# Altium footprint library pinhead.PCBLIB: 100 footprints (part 6 of 7)
Each footprint in its own frame and in the unit in brackets; x right, y up, seen from the top. Pads: shape width x height; smd on the part's side, far side on the other; paste and mask are expansions set on the pad; w line width, h text height; cw(c..) or ccw(c..) is an arc to the next point about the centre after c.
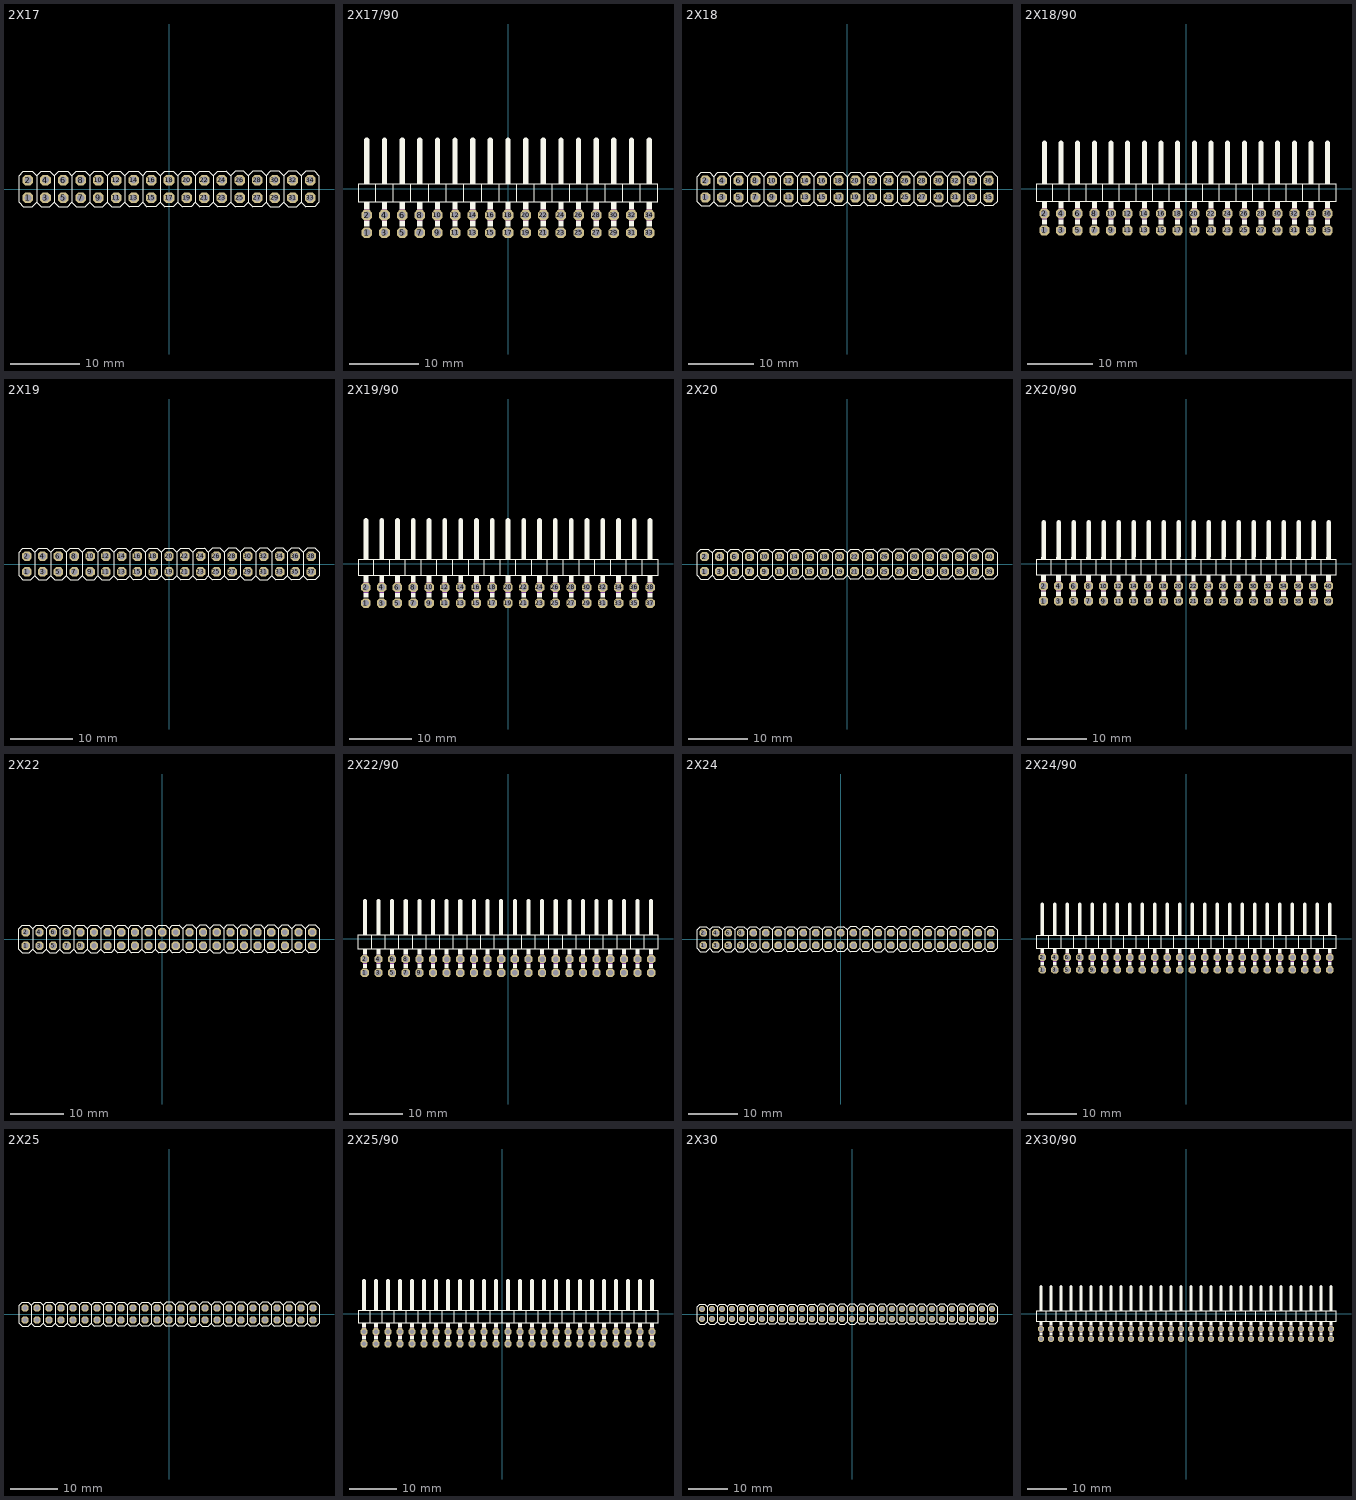
[diagram p5: the footprints below, top view; thin cyan lines are the x and y axes]

## 2X17 [mil]
pads (34):
  oct 60x60 hole 40: 1(-800,-50) 2(-800,50) 3(-700,-50) 4(-700,50) 5(-600,-50) 6(-600,50) 7(-500,-50) 8(-500,50) 9(-400,-50) 10(-400,50) 11(-300,-50) 12(-300,50) 13(-200,-50) 14(-200,50) 15(-100,-50) 16(-100,50) 17(0,-50) 18(0,50) 19(100,-50) 20(100,50) 21(200,-50) 22(200,50) 23(300,-50) 24(300,50) 25(400,-50) 26(400,50) 27(500,-50) 28(500,50) 29(600,-50) 30(600,50) 31(700,-50) 32(700,50) 33(800,-50) 34(800,50)
Top Overlay:
  lines w6: -750,-75 -775,-100 -825,-100 -850,-75 -850,75 -825,100 -775,100 -750,75 ; -750,-75 -725,-100 -675,-100 -650,-75 ; -750,-75 -750,75 ; -750,75 -725,100 -675,100 -650,75 ; -650,-75 -625,-100 -575,-100 -550,-75 ; -650,-75 -650,75 ; -650,75 -625,100 -575,100 -550,75 ; -550,-75 -525,-100 -475,-100 -450,-75 ; -550,-75 -550,75 ; -550,75 -525,100 -475,100 -450,75 ; -450,-75 -425,-100 -375,-100 -350,-75 ; -450,-75 -450,75 ; -450,75 -425,100 -375,100 -350,75 ; -350,-75 -325,-100 -275,-100 -250,-75 ; -350,-75 -350,75 ; -350,75 -325,100 -275,100 -250,75 ; -250,-75 -225,-100 -175,-100 -150,-75 ; -250,-75 -250,75 ; -250,75 -225,100 -175,100 -150,75 ; -150,-75 -125,-100 -75,-100 -50,-75 ; -150,-75 -150,75 ; -150,75 -125,100 -75,100 -50,75 ; -50,-75 -25,-100 25,-100 50,-75 ; -50,-75 -50,75 ; -50,75 -25,100 25,100 50,75 ; 50,-75 75,-100 125,-100 150,-75 ; 50,-75 50,75 ; 50,75 75,100 125,100 150,75 ; 150,-75 175,-100 225,-100 250,-75 ; 150,-75 150,75 ; 150,75 175,100 225,100 250,75 ; 250,-75 275,-100 325,-100 350,-75 ; 250,-75 250,75 ; 250,75 275,100 325,100 350,75 ; 350,-75 375,-100 425,-100 450,-75 ; 350,-75 350,75 ; 350,75 375,100 425,100 450,75 ; 450,-75 475,-100 525,-100 550,-75 ; 450,-75 450,75 ; 450,75 475,100 525,100 550,75 ; 550,-75 575,-100 625,-100 650,-75 ; 550,-75 550,75 ; 550,75 575,100 625,100 650,75 ; 650,-75 675,-100 725,-100 750,-75 ; 650,-75 650,75 ; 650,75 675,100 725,100 750,75 ; 750,-75 775,-100 825,-100 850,-75 850,75 825,100 775,100 750,75 ; 750,-75 750,75
Mechanical 16:
  rectangle: -810,-60 -790,-40
  rectangle: -810,40 -790,60
  rectangle: -710,40 -690,60
  rectangle: -710,-60 -690,-40
  rectangle: -610,40 -590,60
  rectangle: -610,-60 -590,-40
  rectangle: -510,40 -490,60
  rectangle: -410,40 -390,60
  rectangle: -310,40 -290,60
  rectangle: -510,-60 -490,-40
  rectangle: -410,-60 -390,-40
  rectangle: -310,-60 -290,-40
  rectangle: -210,40 -190,60
  rectangle: -210,-60 -190,-40
  rectangle: -110,40 -90,60
  rectangle: -110,-60 -90,-40
  rectangle: -10,40 10,60
  rectangle: -10,-60 10,-40
  rectangle: 90,40 110,60
  rectangle: 90,-60 110,-40
  rectangle: 190,40 210,60
  rectangle: 190,-60 210,-40
  rectangle: 290,40 310,60
  rectangle: 290,-60 310,-40
  rectangle: 390,40 410,60
  rectangle: 390,-60 410,-40
  rectangle: 490,40 510,60
  rectangle: 490,-60 510,-40
  rectangle: 590,40 610,60
  rectangle: 590,-60 610,-40
  rectangle: 690,40 710,60
  rectangle: 690,-60 710,-40
  rectangle: 790,40 810,60
  rectangle: 790,-60 810,-40

## 2X17/90 [mil]
pads (34):
  oct 60x60 hole 40: 1(-800,-250) 2(-800,-150) 3(-700,-250) 4(-700,-150) 5(-600,-250) 6(-600,-150) 7(-500,-250) 8(-500,-150) 9(-400,-250) 10(-400,-150) 11(-300,-250) 12(-300,-150) 13(-200,-250) 14(-200,-150) 15(-100,-250) 16(-100,-150) 17(0,-250) 18(0,-150) 19(100,-250) 20(100,-150) 21(200,-250) 22(200,-150) 23(300,-250) 24(300,-150) 25(400,-250) 26(400,-150) 27(500,-250) 28(500,-150) 29(600,-250) 30(600,-150) 31(700,-250) 32(700,-150) 33(800,-250) 34(800,-150)
Top Overlay:
  rectangle: -815,25 -785,45
  rectangle: -715,25 -685,45
  rectangle: -615,25 -585,45
  rectangle: -515,25 -485,45
  rectangle: -415,25 -385,45
  rectangle: -315,25 -285,45
  rectangle: -215,25 -185,45
  rectangle: -115,25 -85,45
  rectangle: -15,25 15,45
  rectangle: 85,25 115,45
  rectangle: 185,25 215,45
  rectangle: 285,25 315,45
  rectangle: 385,25 415,45
  rectangle: 485,25 515,45
  rectangle: 585,25 615,45
  rectangle: 685,25 715,45
  rectangle: 785,25 815,45
  rectangle: -815,-115 -785,-75
  rectangle: -715,-115 -685,-75
  rectangle: -815,-215 -785,-185
  rectangle: -715,-215 -685,-185
  rectangle: -615,-115 -585,-75
  rectangle: -515,-115 -485,-75
  rectangle: -615,-215 -585,-185
  rectangle: -515,-215 -485,-185
  rectangle: -415,-115 -385,-75
  rectangle: -415,-215 -385,-185
  rectangle: -315,-115 -285,-75
  rectangle: -215,-115 -185,-75
  rectangle: -315,-215 -285,-185
  rectangle: -215,-215 -185,-185
  rectangle: -115,-115 -85,-75
  rectangle: -15,-115 15,-75
  rectangle: -115,-215 -85,-185
  rectangle: -15,-215 15,-185
  rectangle: 85,-115 115,-75
  rectangle: 85,-215 115,-185
  rectangle: 185,-115 215,-75
  rectangle: 285,-115 315,-75
  rectangle: 185,-215 215,-185
  rectangle: 285,-215 315,-185
  rectangle: 385,-115 415,-75
  rectangle: 485,-115 515,-75
  rectangle: 385,-215 415,-185
  rectangle: 485,-215 515,-185
  rectangle: 585,-115 615,-75
  rectangle: 585,-215 615,-185
  rectangle: 685,-115 715,-75
  rectangle: 785,-115 815,-75
  rectangle: 685,-215 715,-185
  rectangle: 785,-215 815,-185
  lines w6: -750,-75 -850,-75 -850,25 -750,25 ; -750,-75 -750,25 ; -750,-75 -650,-75 ; -750,25 -650,25 ; -650,-75 -650,25 ; -650,-75 -550,-75 ; -650,25 -550,25 ; -550,-75 -550,25 ; -550,-75 -450,-75 ; -550,25 -450,25 ; -450,-75 -450,25 ; -450,-75 -350,-75 ; -450,25 -350,25 ; -350,-75 -350,25 ; -350,-75 -250,-75 ; -350,25 -250,25 ; -250,-75 -250,25 ; -250,-75 -150,-75 ; -250,25 -150,25 ; -150,-75 -150,25 ; -150,-75 -50,-75 ; -150,25 -50,25 ; -50,-75 -50,25 ; -50,-75 50,-75 ; -50,25 50,25 ; 50,-75 50,25 ; 50,-75 150,-75 ; 50,25 150,25 ; 150,-75 150,25 ; 150,-75 250,-75 ; 150,25 250,25 ; 250,-75 250,25 ; 250,-75 350,-75 ; 250,25 350,25 ; 350,-75 350,25 ; 350,-75 450,-75 ; 350,25 450,25 ; 450,-75 450,25 ; 450,-75 550,-75 ; 450,25 550,25 ; 550,-75 550,25 ; 550,-75 650,-75 ; 550,25 650,25 ; 650,-75 650,25 ; 650,-75 750,-75 ; 650,25 750,25 ; 750,-75 750,25 ; 750,-75 850,-75 850,25 750,25
  lines w30: -800,50 -800,275 ; -700,50 -700,275 ; -600,50 -600,275 ; -500,50 -500,275 ; -400,50 -400,275 ; -300,50 -300,275 ; -200,50 -200,275 ; -100,50 -100,275 ; 0,50 0,275 ; 100,50 100,275 ; 200,50 200,275 ; 300,50 300,275 ; 400,50 400,275 ; 500,50 500,275 ; 600,50 600,275 ; 700,50 700,275 ; 800,50 800,275
Mechanical 16:
  rectangle: -815,-185 -785,-115
  rectangle: -715,-185 -685,-115
  rectangle: -615,-185 -585,-115
  rectangle: -515,-185 -485,-115
  rectangle: -415,-185 -385,-115
  rectangle: -315,-185 -285,-115
  rectangle: -215,-185 -185,-115
  rectangle: -115,-185 -85,-115
  rectangle: -15,-185 15,-115
  rectangle: 85,-185 115,-115
  rectangle: 185,-185 215,-115
  rectangle: 285,-185 315,-115
  rectangle: 385,-185 415,-115
  rectangle: 485,-185 515,-115
  rectangle: 585,-185 615,-115
  rectangle: 685,-185 715,-115
  rectangle: 785,-185 815,-115

## 2X18 [mil]
pads (36):
  oct 60x60 hole 40: 1(-850,-50) 2(-850,50) 3(-750,-50) 4(-750,50) 5(-650,-50) 6(-650,50) 7(-550,-50) 8(-550,50) 9(-450,-50) 10(-450,50) 11(-350,-50) 12(-350,50) 13(-250,-50) 14(-250,50) 15(-150,-50) 16(-150,50) 17(-50,-50) 18(-50,50) 19(50,-50) 20(50,50) 21(150,-50) 22(150,50) 23(250,-50) 24(250,50) 25(350,-50) 26(350,50) 27(450,-50) 28(450,50) 29(550,-50) 30(550,50) 31(650,-50) 32(650,50) 33(750,-50) 34(750,50) 35(850,-50) 36(850,50)
Top Overlay:
  lines w6: -800,-75 -825,-100 -875,-100 -900,-75 -900,75 -875,100 -825,100 -800,75 ; -800,-75 -775,-100 -725,-100 -700,-75 ; -800,-75 -800,75 ; -800,75 -775,100 -725,100 -700,75 ; -700,-75 -675,-100 -625,-100 -600,-75 ; -700,-75 -700,75 ; -700,75 -675,100 -625,100 -600,75 ; -600,-75 -575,-100 -525,-100 -500,-75 ; -600,-75 -600,75 ; -600,75 -575,100 -525,100 -500,75 ; -500,-75 -475,-100 -425,-100 -400,-75 ; -500,-75 -500,75 ; -500,75 -475,100 -425,100 -400,75 ; -400,-75 -375,-100 -325,-100 -300,-75 ; -400,-75 -400,75 ; -400,75 -375,100 -325,100 -300,75 ; -300,-75 -275,-100 -225,-100 -200,-75 ; -300,-75 -300,75 ; -300,75 -275,100 -225,100 -200,75 ; -200,-75 -175,-100 -125,-100 -100,-75 ; -200,-75 -200,75 ; -200,75 -175,100 -125,100 -100,75 ; -100,-75 -75,-100 -25,-100 0,-75 ; -100,-75 -100,75 ; -100,75 -75,100 -25,100 0,75 ; 0,-75 25,-100 75,-100 100,-75 ; 0,-75 0,75 ; 0,75 25,100 75,100 100,75 ; 100,-75 125,-100 175,-100 200,-75 ; 100,-75 100,75 ; 100,75 125,100 175,100 200,75 ; 200,-75 225,-100 275,-100 300,-75 ; 200,-75 200,75 ; 200,75 225,100 275,100 300,75 ; 300,-75 325,-100 375,-100 400,-75 ; 300,-75 300,75 ; 300,75 325,100 375,100 400,75 ; 400,-75 425,-100 475,-100 500,-75 ; 400,-75 400,75 ; 400,75 425,100 475,100 500,75 ; 500,-75 525,-100 575,-100 600,-75 ; 500,-75 500,75 ; 500,75 525,100 575,100 600,75 ; 600,-75 625,-100 675,-100 700,-75 ; 600,-75 600,75 ; 600,75 625,100 675,100 700,75 ; 700,-75 725,-100 775,-100 800,-75 ; 700,-75 700,75 ; 700,75 725,100 775,100 800,75 ; 800,-75 825,-100 875,-100 900,-75 900,75 875,100 825,100 800,75 ; 800,-75 800,75
Mechanical 16:
  rectangle: -860,-60 -840,-40
  rectangle: -860,40 -840,60
  rectangle: -760,40 -740,60
  rectangle: -760,-60 -740,-40
  rectangle: -660,40 -640,60
  rectangle: -660,-60 -640,-40
  rectangle: -560,40 -540,60
  rectangle: -460,40 -440,60
  rectangle: -360,40 -340,60
  rectangle: -560,-60 -540,-40
  rectangle: -460,-60 -440,-40
  rectangle: -360,-60 -340,-40
  rectangle: -260,40 -240,60
  rectangle: -260,-60 -240,-40
  rectangle: -160,40 -140,60
  rectangle: -160,-60 -140,-40
  rectangle: -60,40 -40,60
  rectangle: -60,-60 -40,-40
  rectangle: 40,40 60,60
  rectangle: 40,-60 60,-40
  rectangle: 140,40 160,60
  rectangle: 140,-60 160,-40
  rectangle: 240,40 260,60
  rectangle: 240,-60 260,-40
  rectangle: 340,40 360,60
  rectangle: 340,-60 360,-40
  rectangle: 440,40 460,60
  rectangle: 440,-60 460,-40
  rectangle: 540,40 560,60
  rectangle: 540,-60 560,-40
  rectangle: 640,40 660,60
  rectangle: 640,-60 660,-40
  rectangle: 740,40 760,60
  rectangle: 740,-60 760,-40
  rectangle: 840,40 860,60
  rectangle: 840,-60 860,-40

## 2X18/90 [mil]
pads (36):
  oct 60x60 hole 40: 1(-850,-250) 2(-850,-150) 3(-750,-250) 4(-750,-150) 5(-650,-250) 6(-650,-150) 7(-550,-250) 8(-550,-150) 9(-450,-250) 10(-450,-150) 11(-350,-250) 12(-350,-150) 13(-250,-250) 14(-250,-150) 15(-150,-250) 16(-150,-150) 17(-50,-250) 18(-50,-150) 19(50,-250) 20(50,-150) 21(150,-250) 22(150,-150) 23(250,-250) 24(250,-150) 25(350,-250) 26(350,-150) 27(450,-250) 28(450,-150) 29(550,-250) 30(550,-150) 31(650,-250) 32(650,-150) 33(750,-250) 34(750,-150) 35(850,-250) 36(850,-150)
Top Overlay:
  rectangle: -865,25 -835,45
  rectangle: -765,25 -735,45
  rectangle: -665,25 -635,45
  rectangle: -565,25 -535,45
  rectangle: -465,25 -435,45
  rectangle: -365,25 -335,45
  rectangle: -265,25 -235,45
  rectangle: -165,25 -135,45
  rectangle: -65,25 -35,45
  rectangle: 35,25 65,45
  rectangle: 135,25 165,45
  rectangle: 235,25 265,45
  rectangle: 335,25 365,45
  rectangle: 435,25 465,45
  rectangle: 535,25 565,45
  rectangle: 635,25 665,45
  rectangle: 735,25 765,45
  rectangle: 835,25 865,45
  rectangle: -865,-115 -835,-75
  rectangle: -765,-115 -735,-75
  rectangle: -865,-215 -835,-185
  rectangle: -765,-215 -735,-185
  rectangle: -665,-115 -635,-75
  rectangle: -565,-115 -535,-75
  rectangle: -665,-215 -635,-185
  rectangle: -565,-215 -535,-185
  rectangle: -465,-115 -435,-75
  rectangle: -465,-215 -435,-185
  rectangle: -365,-115 -335,-75
  rectangle: -265,-115 -235,-75
  rectangle: -365,-215 -335,-185
  rectangle: -265,-215 -235,-185
  rectangle: -165,-115 -135,-75
  rectangle: -65,-115 -35,-75
  rectangle: -165,-215 -135,-185
  rectangle: -65,-215 -35,-185
  rectangle: 35,-115 65,-75
  rectangle: 35,-215 65,-185
  rectangle: 135,-115 165,-75
  rectangle: 235,-115 265,-75
  rectangle: 135,-215 165,-185
  rectangle: 235,-215 265,-185
  rectangle: 335,-115 365,-75
  rectangle: 435,-115 465,-75
  rectangle: 335,-215 365,-185
  rectangle: 435,-215 465,-185
  rectangle: 535,-115 565,-75
  rectangle: 535,-215 565,-185
  rectangle: 635,-115 665,-75
  rectangle: 735,-115 765,-75
  rectangle: 635,-215 665,-185
  rectangle: 735,-215 765,-185
  rectangle: 835,-115 865,-75
  rectangle: 835,-215 865,-185
  lines w6: -800,-75 -900,-75 -900,25 -800,25 ; -800,-75 -800,25 ; -800,-75 -700,-75 ; -800,25 -700,25 ; -700,-75 -700,25 ; -700,-75 -600,-75 ; -700,25 -600,25 ; -600,-75 -600,25 ; -600,-75 -500,-75 ; -600,25 -500,25 ; -500,-75 -500,25 ; -500,-75 -400,-75 ; -500,25 -400,25 ; -400,-75 -400,25 ; -400,-75 -300,-75 ; -400,25 -300,25 ; -300,-75 -300,25 ; -300,-75 -200,-75 ; -300,25 -200,25 ; -200,-75 -200,25 ; -200,-75 -100,-75 ; -200,25 -100,25 ; -100,-75 -100,25 ; -100,-75 0,-75 ; -100,25 0,25 ; 0,-75 0,25 ; 0,-75 100,-75 ; 0,25 100,25 ; 100,-75 100,25 ; 100,-75 200,-75 ; 100,25 200,25 ; 200,-75 200,25 ; 200,-75 300,-75 ; 200,25 300,25 ; 300,-75 300,25 ; 300,-75 400,-75 ; 300,25 400,25 ; 400,-75 400,25 ; 400,-75 500,-75 ; 400,25 500,25 ; 500,-75 500,25 ; 500,-75 600,-75 ; 500,25 600,25 ; 600,-75 600,25 ; 600,-75 700,-75 ; 600,25 700,25 ; 700,-75 700,25 ; 700,-75 800,-75 ; 700,25 800,25 ; 800,-75 800,25 ; 800,-75 900,-75 900,25 800,25
  lines w30: -850,50 -850,275 ; -750,50 -750,275 ; -650,50 -650,275 ; -550,50 -550,275 ; -450,50 -450,275 ; -350,50 -350,275 ; -250,50 -250,275 ; -150,50 -150,275 ; -50,50 -50,275 ; 50,50 50,275 ; 150,50 150,275 ; 250,50 250,275 ; 350,50 350,275 ; 450,50 450,275 ; 550,50 550,275 ; 650,50 650,275 ; 750,50 750,275 ; 850,50 850,275
Mechanical 16:
  rectangle: -865,-185 -835,-115
  rectangle: -765,-185 -735,-115
  rectangle: -665,-185 -635,-115
  rectangle: -565,-185 -535,-115
  rectangle: -465,-185 -435,-115
  rectangle: -365,-185 -335,-115
  rectangle: -265,-185 -235,-115
  rectangle: -165,-185 -135,-115
  rectangle: -65,-185 -35,-115
  rectangle: 35,-185 65,-115
  rectangle: 135,-185 165,-115
  rectangle: 235,-185 265,-115
  rectangle: 335,-185 365,-115
  rectangle: 435,-185 465,-115
  rectangle: 535,-185 565,-115
  rectangle: 635,-185 665,-115
  rectangle: 735,-185 765,-115
  rectangle: 835,-185 865,-115

## 2X19 [mil]
pads (38):
  oct 60x60 hole 40: 1(-900,-50) 2(-900,50) 3(-800,-50) 4(-800,50) 5(-700,-50) 6(-700,50) 7(-600,-50) 8(-600,50) 9(-500,-50) 10(-500,50) 11(-400,-50) 12(-400,50) 13(-300,-50) 14(-300,50) 15(-200,-50) 16(-200,50) 17(-100,-50) 18(-100,50) 19(0,-50) 20(0,50) 21(100,-50) 22(100,50) 23(200,-50) 24(200,50) 25(300,-50) 26(300,50) 27(400,-50) 28(400,50) 29(500,-50) 30(500,50) 31(600,-50) 32(600,50) 33(700,-50) 34(700,50) 35(800,-50) 36(800,50) 37(900,-50) 38(900,50)
Top Overlay:
  lines w6: -850,-75 -875,-100 -925,-100 -950,-75 -950,75 -925,100 -875,100 -850,75 ; -850,-75 -825,-100 -775,-100 -750,-75 ; -850,-75 -850,75 ; -850,75 -825,100 -775,100 -750,75 ; -750,-75 -725,-100 -675,-100 -650,-75 ; -750,-75 -750,75 ; -750,75 -725,100 -675,100 -650,75 ; -650,-75 -625,-100 -575,-100 -550,-75 ; -650,-75 -650,75 ; -650,75 -625,100 -575,100 -550,75 ; -550,-75 -525,-100 -475,-100 -450,-75 ; -550,-75 -550,75 ; -550,75 -525,100 -475,100 -450,75 ; -450,-75 -425,-100 -375,-100 -350,-75 ; -450,-75 -450,75 ; -450,75 -425,100 -375,100 -350,75 ; -350,-75 -325,-100 -275,-100 -250,-75 ; -350,-75 -350,75 ; -350,75 -325,100 -275,100 -250,75 ; -250,-75 -225,-100 -175,-100 -150,-75 ; -250,-75 -250,75 ; -250,75 -225,100 -175,100 -150,75 ; -150,-75 -125,-100 -75,-100 -50,-75 ; -150,-75 -150,75 ; -150,75 -125,100 -75,100 -50,75 ; -50,-75 -25,-100 25,-100 50,-75 ; -50,-75 -50,75 ; -50,75 -25,100 25,100 50,75 ; 50,-75 75,-100 125,-100 150,-75 ; 50,-75 50,75 ; 50,75 75,100 125,100 150,75 ; 150,-75 175,-100 225,-100 250,-75 ; 150,-75 150,75 ; 150,75 175,100 225,100 250,75 ; 250,-75 275,-100 325,-100 350,-75 ; 250,-75 250,75 ; 250,75 275,100 325,100 350,75 ; 350,-75 375,-100 425,-100 450,-75 ; 350,-75 350,75 ; 350,75 375,100 425,100 450,75 ; 450,-75 475,-100 525,-100 550,-75 ; 450,-75 450,75 ; 450,75 475,100 525,100 550,75 ; 550,-75 575,-100 625,-100 650,-75 ; 550,-75 550,75 ; 550,75 575,100 625,100 650,75 ; 650,-75 675,-100 725,-100 750,-75 ; 650,-75 650,75 ; 650,75 675,100 725,100 750,75 ; 750,-75 775,-100 825,-100 850,-75 ; 750,-75 750,75 ; 750,75 775,100 825,100 850,75 ; 850,-75 875,-100 925,-100 950,-75 950,75 925,100 875,100 850,75 ; 850,-75 850,75
Mechanical 16:
  rectangle: -910,-60 -890,-40
  rectangle: -910,40 -890,60
  rectangle: -810,40 -790,60
  rectangle: -810,-60 -790,-40
  rectangle: -710,40 -690,60
  rectangle: -710,-60 -690,-40
  rectangle: -610,40 -590,60
  rectangle: -510,40 -490,60
  rectangle: -410,40 -390,60
  rectangle: -610,-60 -590,-40
  rectangle: -510,-60 -490,-40
  rectangle: -410,-60 -390,-40
  rectangle: -310,40 -290,60
  rectangle: -310,-60 -290,-40
  rectangle: -210,40 -190,60
  rectangle: -210,-60 -190,-40
  rectangle: -110,40 -90,60
  rectangle: -110,-60 -90,-40
  rectangle: -10,40 10,60
  rectangle: -10,-60 10,-40
  rectangle: 90,40 110,60
  rectangle: 90,-60 110,-40
  rectangle: 190,40 210,60
  rectangle: 190,-60 210,-40
  rectangle: 290,40 310,60
  rectangle: 290,-60 310,-40
  rectangle: 390,40 410,60
  rectangle: 390,-60 410,-40
  rectangle: 490,40 510,60
  rectangle: 490,-60 510,-40
  rectangle: 590,40 610,60
  rectangle: 590,-60 610,-40
  rectangle: 690,40 710,60
  rectangle: 690,-60 710,-40
  rectangle: 790,40 810,60
  rectangle: 790,-60 810,-40
  rectangle: 890,40 910,60
  rectangle: 890,-60 910,-40

## 2X19/90 [mil]
pads (38):
  oct 60x60 hole 40: 1(-900,-250) 2(-900,-150) 3(-800,-250) 4(-800,-150) 5(-700,-250) 6(-700,-150) 7(-600,-250) 8(-600,-150) 9(-500,-250) 10(-500,-150) 11(-400,-250) 12(-400,-150) 13(-300,-250) 14(-300,-150) 15(-200,-250) 16(-200,-150) 17(-100,-250) 18(-100,-150) 19(0,-250) 20(0,-150) 21(100,-250) 22(100,-150) 23(200,-250) 24(200,-150) 25(300,-250) 26(300,-150) 27(400,-250) 28(400,-150) 29(500,-250) 30(500,-150) 31(600,-250) 32(600,-150) 33(700,-250) 34(700,-150) 35(800,-250) 36(800,-150) 37(900,-250) 38(900,-150)
Top Overlay:
  rectangle: -915,25 -885,45
  rectangle: -815,25 -785,45
  rectangle: -715,25 -685,45
  rectangle: -615,25 -585,45
  rectangle: -515,25 -485,45
  rectangle: -415,25 -385,45
  rectangle: -315,25 -285,45
  rectangle: -215,25 -185,45
  rectangle: -115,25 -85,45
  rectangle: -15,25 15,45
  rectangle: 85,25 115,45
  rectangle: 185,25 215,45
  rectangle: 285,25 315,45
  rectangle: 385,25 415,45
  rectangle: 485,25 515,45
  rectangle: 585,25 615,45
  rectangle: 685,25 715,45
  rectangle: 785,25 815,45
  rectangle: 885,25 915,45
  rectangle: -915,-115 -885,-75
  rectangle: -815,-115 -785,-75
  rectangle: -915,-215 -885,-185
  rectangle: -815,-215 -785,-185
  rectangle: -715,-115 -685,-75
  rectangle: -615,-115 -585,-75
  rectangle: -715,-215 -685,-185
  rectangle: -615,-215 -585,-185
  rectangle: -515,-115 -485,-75
  rectangle: -515,-215 -485,-185
  rectangle: -415,-115 -385,-75
  rectangle: -315,-115 -285,-75
  rectangle: -415,-215 -385,-185
  rectangle: -315,-215 -285,-185
  rectangle: -215,-115 -185,-75
  rectangle: -115,-115 -85,-75
  rectangle: -215,-215 -185,-185
  rectangle: -115,-215 -85,-185
  rectangle: -15,-115 15,-75
  rectangle: -15,-215 15,-185
  rectangle: 85,-115 115,-75
  rectangle: 185,-115 215,-75
  rectangle: 85,-215 115,-185
  rectangle: 185,-215 215,-185
  rectangle: 285,-115 315,-75
  rectangle: 385,-115 415,-75
  rectangle: 285,-215 315,-185
  rectangle: 385,-215 415,-185
  rectangle: 485,-115 515,-75
  rectangle: 485,-215 515,-185
  rectangle: 585,-115 615,-75
  rectangle: 685,-115 715,-75
  rectangle: 585,-215 615,-185
  rectangle: 685,-215 715,-185
  rectangle: 785,-115 815,-75
  rectangle: 885,-115 915,-75
  rectangle: 785,-215 815,-185
  rectangle: 885,-215 915,-185
  lines w6: -850,-75 -950,-75 -950,25 -850,25 ; -850,-75 -850,25 ; -850,-75 -750,-75 ; -850,25 -750,25 ; -750,-75 -750,25 ; -750,-75 -650,-75 ; -750,25 -650,25 ; -650,-75 -650,25 ; -650,-75 -550,-75 ; -650,25 -550,25 ; -550,-75 -550,25 ; -550,-75 -450,-75 ; -550,25 -450,25 ; -450,-75 -450,25 ; -450,-75 -350,-75 ; -450,25 -350,25 ; -350,-75 -350,25 ; -350,-75 -250,-75 ; -350,25 -250,25 ; -250,-75 -250,25 ; -250,-75 -150,-75 ; -250,25 -150,25 ; -150,-75 -150,25 ; -150,-75 -50,-75 ; -150,25 -50,25 ; -50,-75 -50,25 ; -50,-75 50,-75 ; -50,25 50,25 ; 50,-75 50,25 ; 50,-75 150,-75 ; 50,25 150,25 ; 150,-75 150,25 ; 150,-75 250,-75 ; 150,25 250,25 ; 250,-75 250,25 ; 250,-75 350,-75 ; 250,25 350,25 ; 350,-75 350,25 ; 350,-75 450,-75 ; 350,25 450,25 ; 450,-75 450,25 ; 450,-75 550,-75 ; 450,25 550,25 ; 550,-75 550,25 ; 550,-75 650,-75 ; 550,25 650,25 ; 650,-75 650,25 ; 650,-75 750,-75 ; 650,25 750,25 ; 750,-75 750,25 ; 750,-75 850,-75 ; 750,25 850,25 ; 850,-75 850,25 ; 850,-75 950,-75 950,25 850,25
  lines w30: -900,50 -900,275 ; -800,50 -800,275 ; -700,50 -700,275 ; -600,50 -600,275 ; -500,50 -500,275 ; -400,50 -400,275 ; -300,50 -300,275 ; -200,50 -200,275 ; -100,50 -100,275 ; 0,50 0,275 ; 100,50 100,275 ; 200,50 200,275 ; 300,50 300,275 ; 400,50 400,275 ; 500,50 500,275 ; 600,50 600,275 ; 700,50 700,275 ; 800,50 800,275 ; 900,50 900,275
Mechanical 16:
  rectangle: -915,-185 -885,-115
  rectangle: -815,-185 -785,-115
  rectangle: -715,-185 -685,-115
  rectangle: -615,-185 -585,-115
  rectangle: -515,-185 -485,-115
  rectangle: -415,-185 -385,-115
  rectangle: -315,-185 -285,-115
  rectangle: -215,-185 -185,-115
  rectangle: -115,-185 -85,-115
  rectangle: -15,-185 15,-115
  rectangle: 85,-185 115,-115
  rectangle: 185,-185 215,-115
  rectangle: 285,-185 315,-115
  rectangle: 385,-185 415,-115
  rectangle: 485,-185 515,-115
  rectangle: 585,-185 615,-115
  rectangle: 685,-185 715,-115
  rectangle: 785,-185 815,-115
  rectangle: 885,-185 915,-115

## 2X20 [mil]
pads (40):
  oct 60x60 hole 40: 1(-950,-50) 2(-950,50) 3(-850,-50) 4(-850,50) 5(-750,-50) 6(-750,50) 7(-650,-50) 8(-650,50) 9(-550,-50) 10(-550,50) 11(-450,-50) 12(-450,50) 13(-350,-50) 14(-350,50) 15(-250,-50) 16(-250,50) 17(-150,-50) 18(-150,50) 19(-50,-50) 20(-50,50) 21(50,-50) 22(50,50) 23(150,-50) 24(150,50) 25(250,-50) 26(250,50) 27(350,-50) 28(350,50) 29(450,-50) 30(450,50) 31(550,-50) 32(550,50) 33(650,-50) 34(650,50) 35(750,-50) 36(750,50) 37(850,-50) 38(850,50) 39(950,-50) 40(950,50)
Top Overlay:
  lines w6: -900,-75 -925,-100 -975,-100 -1000,-75 -1000,75 -975,100 -925,100 -900,75 ; -900,-75 -875,-100 -825,-100 -800,-75 ; -900,-75 -900,75 ; -900,75 -875,100 -825,100 -800,75 ; -800,-75 -775,-100 -725,-100 -700,-75 ; -800,-75 -800,75 ; -800,75 -775,100 -725,100 -700,75 ; -700,-75 -675,-100 -625,-100 -600,-75 ; -700,-75 -700,75 ; -700,75 -675,100 -625,100 -600,75 ; -600,-75 -575,-100 -525,-100 -500,-75 ; -600,-75 -600,75 ; -600,75 -575,100 -525,100 -500,75 ; -500,-75 -475,-100 -425,-100 -400,-75 ; -500,-75 -500,75 ; -500,75 -475,100 -425,100 -400,75 ; -400,-75 -375,-100 -325,-100 -300,-75 ; -400,-75 -400,75 ; -400,75 -375,100 -325,100 -300,75 ; -300,-75 -275,-100 -225,-100 -200,-75 ; -300,-75 -300,75 ; -300,75 -275,100 -225,100 -200,75 ; -200,-75 -175,-100 -125,-100 -100,-75 ; -200,-75 -200,75 ; -200,75 -175,100 -125,100 -100,75 ; -100,-75 -75,-100 -25,-100 0,-75 ; -100,-75 -100,75 ; -100,75 -75,100 -25,100 0,75 ; 0,-75 25,-100 75,-100 100,-75 ; 0,-75 0,75 ; 0,75 25,100 75,100 100,75 ; 100,-75 125,-100 175,-100 200,-75 ; 100,-75 100,75 ; 100,75 125,100 175,100 200,75 ; 200,-75 225,-100 275,-100 300,-75 ; 200,-75 200,75 ; 200,75 225,100 275,100 300,75 ; 300,-75 325,-100 375,-100 400,-75 ; 300,-75 300,75 ; 300,75 325,100 375,100 400,75 ; 400,-75 425,-100 475,-100 500,-75 ; 400,-75 400,75 ; 400,75 425,100 475,100 500,75 ; 500,-75 525,-100 575,-100 600,-75 ; 500,-75 500,75 ; 500,75 525,100 575,100 600,75 ; 600,-75 625,-100 675,-100 700,-75 ; 600,-75 600,75 ; 600,75 625,100 675,100 700,75 ; 700,-75 725,-100 775,-100 800,-75 ; 700,-75 700,75 ; 700,75 725,100 775,100 800,75 ; 800,-75 825,-100 875,-100 900,-75 ; 800,-75 800,75 ; 800,75 825,100 875,100 900,75 ; 900,-75 900,75 ; 900,-75 925,-100 975,-100 1000,-75 1000,75 975,100 925,100 900,75
Mechanical 16:
  rectangle: -960,-60 -940,-40
  rectangle: -960,40 -940,60
  rectangle: -860,40 -840,60
  rectangle: -860,-60 -840,-40
  rectangle: -760,40 -740,60
  rectangle: -760,-60 -740,-40
  rectangle: -660,40 -640,60
  rectangle: -560,40 -540,60
  rectangle: -460,40 -440,60
  rectangle: -660,-60 -640,-40
  rectangle: -560,-60 -540,-40
  rectangle: -460,-60 -440,-40
  rectangle: -360,40 -340,60
  rectangle: -360,-60 -340,-40
  rectangle: -260,40 -240,60
  rectangle: -260,-60 -240,-40
  rectangle: -160,40 -140,60
  rectangle: -160,-60 -140,-40
  rectangle: -60,40 -40,60
  rectangle: -60,-60 -40,-40
  rectangle: 40,40 60,60
  rectangle: 40,-60 60,-40
  rectangle: 140,40 160,60
  rectangle: 140,-60 160,-40
  rectangle: 240,40 260,60
  rectangle: 240,-60 260,-40
  rectangle: 340,40 360,60
  rectangle: 340,-60 360,-40
  rectangle: 440,40 460,60
  rectangle: 440,-60 460,-40
  rectangle: 540,40 560,60
  rectangle: 540,-60 560,-40
  rectangle: 640,40 660,60
  rectangle: 640,-60 660,-40
  rectangle: 740,40 760,60
  rectangle: 740,-60 760,-40
  rectangle: 840,40 860,60
  rectangle: 840,-60 860,-40
  rectangle: 940,40 960,60
  rectangle: 940,-60 960,-40

## 2X20/90 [mil]
pads (40):
  oct 60x60 hole 40: 1(-950,-250) 2(-950,-150) 3(-850,-250) 4(-850,-150) 5(-750,-250) 6(-750,-150) 7(-650,-250) 8(-650,-150) 9(-550,-250) 10(-550,-150) 11(-450,-250) 12(-450,-150) 13(-350,-250) 14(-350,-150) 15(-250,-250) 16(-250,-150) 17(-150,-250) 18(-150,-150) 19(-50,-250) 20(-50,-150) 21(50,-250) 22(50,-150) 23(150,-250) 24(150,-150) 25(250,-250) 26(250,-150) 27(350,-250) 28(350,-150) 29(450,-250) 30(450,-150) 31(550,-250) 32(550,-150) 33(650,-250) 34(650,-150) 35(750,-250) 36(750,-150) 37(850,-250) 38(850,-150) 39(950,-250) 40(950,-150)
Top Overlay:
  rectangle: -965,25 -935,45
  rectangle: -865,25 -835,45
  rectangle: -765,25 -735,45
  rectangle: -665,25 -635,45
  rectangle: -565,25 -535,45
  rectangle: -465,25 -435,45
  rectangle: -365,25 -335,45
  rectangle: -265,25 -235,45
  rectangle: -165,25 -135,45
  rectangle: -65,25 -35,45
  rectangle: 35,25 65,45
  rectangle: 135,25 165,45
  rectangle: 235,25 265,45
  rectangle: 335,25 365,45
  rectangle: 435,25 465,45
  rectangle: 535,25 565,45
  rectangle: 635,25 665,45
  rectangle: 735,25 765,45
  rectangle: 835,25 865,45
  rectangle: 935,25 965,45
  rectangle: -965,-115 -935,-75
  rectangle: -865,-115 -835,-75
  rectangle: -965,-215 -935,-185
  rectangle: -865,-215 -835,-185
  rectangle: -765,-115 -735,-75
  rectangle: -665,-115 -635,-75
  rectangle: -765,-215 -735,-185
  rectangle: -665,-215 -635,-185
  rectangle: -565,-115 -535,-75
  rectangle: -565,-215 -535,-185
  rectangle: -465,-115 -435,-75
  rectangle: -365,-115 -335,-75
  rectangle: -465,-215 -435,-185
  rectangle: -365,-215 -335,-185
  rectangle: -265,-115 -235,-75
  rectangle: -165,-115 -135,-75
  rectangle: -265,-215 -235,-185
  rectangle: -165,-215 -135,-185
  rectangle: -65,-115 -35,-75
  rectangle: -65,-215 -35,-185
  rectangle: 35,-115 65,-75
  rectangle: 135,-115 165,-75
  rectangle: 35,-215 65,-185
  rectangle: 135,-215 165,-185
  rectangle: 235,-115 265,-75
  rectangle: 335,-115 365,-75
  rectangle: 235,-215 265,-185
  rectangle: 335,-215 365,-185
  rectangle: 435,-115 465,-75
  rectangle: 435,-215 465,-185
  rectangle: 535,-115 565,-75
  rectangle: 635,-115 665,-75
  rectangle: 535,-215 565,-185
  rectangle: 635,-215 665,-185
  rectangle: 735,-115 765,-75
  rectangle: 835,-115 865,-75
  rectangle: 735,-215 765,-185
  rectangle: 835,-215 865,-185
  rectangle: 935,-115 965,-75
  rectangle: 935,-215 965,-185
  lines w6: -900,-75 -1000,-75 -1000,25 -900,25 ; -900,-75 -900,25 ; -900,-75 -800,-75 ; -900,25 -800,25 ; -800,-75 -800,25 ; -800,-75 -700,-75 ; -800,25 -700,25 ; -700,-75 -700,25 ; -700,-75 -600,-75 ; -700,25 -600,25 ; -600,-75 -600,25 ; -600,-75 -500,-75 ; -600,25 -500,25 ; -500,-75 -500,25 ; -500,-75 -400,-75 ; -500,25 -400,25 ; -400,-75 -400,25 ; -400,-75 -300,-75 ; -400,25 -300,25 ; -300,-75 -300,25 ; -300,-75 -200,-75 ; -300,25 -200,25 ; -200,-75 -200,25 ; -200,-75 -100,-75 ; -200,25 -100,25 ; -100,-75 -100,25 ; -100,-75 0,-75 ; -100,25 0,25 ; 0,-75 0,25 ; 0,-75 100,-75 ; 0,25 100,25 ; 100,-75 100,25 ; 100,-75 200,-75 ; 100,25 200,25 ; 200,-75 200,25 ; 200,-75 300,-75 ; 200,25 300,25 ; 300,-75 300,25 ; 300,-75 400,-75 ; 300,25 400,25 ; 400,-75 400,25 ; 400,-75 500,-75 ; 400,25 500,25 ; 500,-75 500,25 ; 500,-75 600,-75 ; 500,25 600,25 ; 600,-75 600,25 ; 600,-75 700,-75 ; 600,25 700,25 ; 700,-75 700,25 ; 700,-75 800,-75 ; 700,25 800,25 ; 800,-75 800,25 ; 800,-75 900,-75 ; 800,25 900,25 ; 900,-75 900,25 ; 900,-75 1000,-75 1000,25 900,25
  lines w30: -950,50 -950,275 ; -850,50 -850,275 ; -750,50 -750,275 ; -650,50 -650,275 ; -550,50 -550,275 ; -450,50 -450,275 ; -350,50 -350,275 ; -250,50 -250,275 ; -150,50 -150,275 ; -50,50 -50,275 ; 50,50 50,275 ; 150,50 150,275 ; 250,50 250,275 ; 350,50 350,275 ; 450,50 450,275 ; 550,50 550,275 ; 650,50 650,275 ; 750,50 750,275 ; 850,50 850,275 ; 950,50 950,275
Mechanical 16:
  rectangle: -965,-185 -935,-115
  rectangle: -865,-185 -835,-115
  rectangle: -765,-185 -735,-115
  rectangle: -665,-185 -635,-115
  rectangle: -565,-185 -535,-115
  rectangle: -465,-185 -435,-115
  rectangle: -365,-185 -335,-115
  rectangle: -265,-185 -235,-115
  rectangle: -165,-185 -135,-115
  rectangle: -65,-185 -35,-115
  rectangle: 35,-185 65,-115
  rectangle: 135,-185 165,-115
  rectangle: 235,-185 265,-115
  rectangle: 335,-185 365,-115
  rectangle: 435,-185 465,-115
  rectangle: 535,-185 565,-115
  rectangle: 635,-185 665,-115
  rectangle: 735,-185 765,-115
  rectangle: 835,-185 865,-115
  rectangle: 935,-185 965,-115

## 2X22 [mil]
pads (44):
  oct 60x60 hole 40: 1(-1000,-50) 2(-1000,50) 3(-900,-50) 4(-900,50) 5(-800,-50) 6(-800,50) 7(-700,-50) 8(-700,50) 9(-600,-50) 10(-600,50) 11(-500,-50) 12(-500,50) 13(-400,-50) 14(-400,50) 15(-300,-50) 16(-300,50) 17(-200,-50) 18(-200,50) 19(-100,-50) 20(-100,50) 21(0,-50) 22(0,50) 23(100,-50) 24(100,50) 25(200,-50) 26(200,50) 27(300,-50) 28(300,50) 29(400,-50) 30(400,50) 31(500,-50) 32(500,50) 33(600,-50) 34(600,50) 35(700,-50) 36(700,50) 37(800,-50) 38(800,50) 39(900,-50) 40(900,50) 41(1000,-50) 42(1000,50) 43(1100,-50) 44(1100,50)
Top Overlay:
  drawing of 155 lines, arcs and shapes, not listed
Mechanical 16:
  rectangle: -1010,-60 -990,-40
  rectangle: -1010,40 -990,60
  rectangle: -910,40 -890,60
  rectangle: -910,-60 -890,-40
  rectangle: -810,40 -790,60
  rectangle: -810,-60 -790,-40
  rectangle: -710,40 -690,60
  rectangle: -610,40 -590,60
  rectangle: -510,40 -490,60
  rectangle: -710,-60 -690,-40
  rectangle: -610,-60 -590,-40
  rectangle: -510,-60 -490,-40
  rectangle: -410,40 -390,60
  rectangle: -410,-60 -390,-40
  rectangle: -310,40 -290,60
  rectangle: -310,-60 -290,-40
  rectangle: -210,40 -190,60
  rectangle: -210,-60 -190,-40
  rectangle: -110,40 -90,60
  rectangle: -110,-60 -90,-40
  rectangle: -10,40 10,60
  rectangle: -10,-60 10,-40
  rectangle: 90,40 110,60
  rectangle: 90,-60 110,-40
  rectangle: 190,40 210,60
  rectangle: 190,-60 210,-40
  rectangle: 290,40 310,60
  rectangle: 290,-60 310,-40
  rectangle: 390,40 410,60
  rectangle: 390,-60 410,-40
  rectangle: 490,40 510,60
  rectangle: 490,-60 510,-40
  rectangle: 590,40 610,60
  rectangle: 590,-60 610,-40
  rectangle: 690,40 710,60
  rectangle: 690,-60 710,-40
  rectangle: 790,40 810,60
  rectangle: 790,-60 810,-40
  rectangle: 890,40 910,60
  rectangle: 890,-60 910,-40
  rectangle: 990,40 1010,60
  rectangle: 990,-60 1010,-40
  rectangle: 1090,40 1110,60
  rectangle: 1090,-60 1110,-40

## 2X22/90 [mil]
pads (44):
  oct 60x60 hole 40: 1(-1050,-250) 2(-1050,-150) 3(-950,-250) 4(-950,-150) 5(-850,-250) 6(-850,-150) 7(-750,-250) 8(-750,-150) 9(-650,-250) 10(-650,-150) 11(-550,-250) 12(-550,-150) 13(-450,-250) 14(-450,-150) 15(-350,-250) 16(-350,-150) 17(-250,-250) 18(-250,-150) 19(-150,-250) 20(-150,-150) 21(-50,-250) 22(-50,-150) 23(50,-250) 24(50,-150) 25(150,-250) 26(150,-150) 27(250,-250) 28(250,-150) 29(350,-250) 30(350,-150) 31(450,-250) 32(450,-150) 33(550,-250) 34(550,-150) 35(650,-250) 36(650,-150) 37(750,-250) 38(750,-150) 39(850,-250) 40(850,-150) 41(950,-250) 42(950,-150) 43(1050,-250) 44(1050,-150)
Top Overlay:
  drawing of 155 lines, arcs and shapes, not listed
Mechanical 16:
  rectangle: -1065,-185 -1035,-115
  rectangle: -965,-185 -935,-115
  rectangle: -865,-185 -835,-115
  rectangle: -765,-185 -735,-115
  rectangle: -665,-185 -635,-115
  rectangle: -565,-185 -535,-115
  rectangle: -465,-185 -435,-115
  rectangle: -365,-185 -335,-115
  rectangle: -265,-185 -235,-115
  rectangle: -165,-185 -135,-115
  rectangle: -65,-185 -35,-115
  rectangle: 35,-185 65,-115
  rectangle: 135,-185 165,-115
  rectangle: 235,-185 265,-115
  rectangle: 335,-185 365,-115
  rectangle: 435,-185 465,-115
  rectangle: 535,-185 565,-115
  rectangle: 635,-185 665,-115
  rectangle: 735,-185 765,-115
  rectangle: 835,-185 865,-115
  rectangle: 935,-185 965,-115
  rectangle: 1035,-185 1065,-115

## 2X24 [mil]
pads (48):
  oct 60x60 hole 40: 1(-1100,-50) 2(-1100,50) 3(-1000,-50) 4(-1000,50) 5(-900,-50) 6(-900,50) 7(-800,-50) 8(-800,50) 9(-700,-50) 10(-700,50) 11(-600,-50) 12(-600,50) 13(-500,-50) 14(-500,50) 15(-400,-50) 16(-400,50) 17(-300,-50) 18(-300,50) 19(-200,-50) 20(-200,50) 21(-100,-50) 22(-100,50) 23(0,-50) 24(0,50) 25(100,-50) 26(100,50) 27(200,-50) 28(200,50) 29(300,-50) 30(300,50) 31(400,-50) 32(400,50) 33(500,-50) 34(500,50) 35(600,-50) 36(600,50) 37(700,-50) 38(700,50) 39(800,-50) 40(800,50) 41(900,-50) 42(900,50) 43(1000,-50) 44(1000,50) 45(1100,-50) 46(1100,50) 47(1200,-50) 48(1200,50)
Top Overlay:
  drawing of 169 lines, arcs and shapes, not listed
Mechanical 16:
  rectangle: -1110,-60 -1090,-40
  rectangle: -1110,40 -1090,60
  rectangle: -1010,40 -990,60
  rectangle: -1010,-60 -990,-40
  rectangle: -910,40 -890,60
  rectangle: -910,-60 -890,-40
  rectangle: -810,40 -790,60
  rectangle: -710,40 -690,60
  rectangle: -610,40 -590,60
  rectangle: -810,-60 -790,-40
  rectangle: -710,-60 -690,-40
  rectangle: -610,-60 -590,-40
  rectangle: -510,40 -490,60
  rectangle: -510,-60 -490,-40
  rectangle: -410,40 -390,60
  rectangle: -410,-60 -390,-40
  rectangle: -310,40 -290,60
  rectangle: -310,-60 -290,-40
  rectangle: -210,40 -190,60
  rectangle: -210,-60 -190,-40
  rectangle: -110,40 -90,60
  rectangle: -110,-60 -90,-40
  rectangle: -10,40 10,60
  rectangle: -10,-60 10,-40
  rectangle: 90,40 110,60
  rectangle: 90,-60 110,-40
  rectangle: 190,40 210,60
  rectangle: 190,-60 210,-40
  rectangle: 290,40 310,60
  rectangle: 290,-60 310,-40
  rectangle: 390,40 410,60
  rectangle: 390,-60 410,-40
  rectangle: 490,40 510,60
  rectangle: 490,-60 510,-40
  rectangle: 590,40 610,60
  rectangle: 590,-60 610,-40
  rectangle: 690,40 710,60
  rectangle: 690,-60 710,-40
  rectangle: 790,40 810,60
  rectangle: 790,-60 810,-40
  rectangle: 890,40 910,60
  rectangle: 890,-60 910,-40
  rectangle: 990,40 1010,60
  rectangle: 990,-60 1010,-40
  rectangle: 1090,40 1110,60
  rectangle: 1090,-60 1110,-40
  rectangle: 1190,40 1210,60
  rectangle: 1190,-60 1210,-40

## 2X24/90 [mil]
pads (48):
  oct 60x60 hole 40: 1(-1150,-250) 2(-1150,-150) 3(-1050,-250) 4(-1050,-150) 5(-950,-250) 6(-950,-150) 7(-850,-250) 8(-850,-150) 9(-750,-250) 10(-750,-150) 11(-650,-250) 12(-650,-150) 13(-550,-250) 14(-550,-150) 15(-450,-250) 16(-450,-150) 17(-350,-250) 18(-350,-150) 19(-250,-250) 20(-250,-150) 21(-150,-250) 22(-150,-150) 23(-50,-250) 24(-50,-150) 25(50,-250) 26(50,-150) 27(150,-250) 28(150,-150) 29(250,-250) 30(250,-150) 31(350,-250) 32(350,-150) 33(450,-250) 34(450,-150) 35(550,-250) 36(550,-150) 37(650,-250) 38(650,-150) 39(750,-250) 40(750,-150) 41(850,-250) 42(850,-150) 43(950,-250) 44(950,-150) 45(1050,-250) 46(1050,-150) 47(1150,-250) 48(1150,-150)
Top Overlay:
  drawing of 169 lines, arcs and shapes, not listed
Mechanical 16:
  rectangle: -1165,-185 -1135,-115
  rectangle: -1065,-185 -1035,-115
  rectangle: -965,-185 -935,-115
  rectangle: -865,-185 -835,-115
  rectangle: -765,-185 -735,-115
  rectangle: -665,-185 -635,-115
  rectangle: -565,-185 -535,-115
  rectangle: -465,-185 -435,-115
  rectangle: -365,-185 -335,-115
  rectangle: -265,-185 -235,-115
  rectangle: -165,-185 -135,-115
  rectangle: -65,-185 -35,-115
  rectangle: 35,-185 65,-115
  rectangle: 135,-185 165,-115
  rectangle: 235,-185 265,-115
  rectangle: 335,-185 365,-115
  rectangle: 435,-185 465,-115
  rectangle: 535,-185 565,-115
  rectangle: 635,-185 665,-115
  rectangle: 735,-185 765,-115
  rectangle: 835,-185 865,-115
  rectangle: 935,-185 965,-115
  rectangle: 1035,-185 1065,-115
  rectangle: 1135,-185 1165,-115

## 2X25 [mil]
pads (50):
  oct 60x60 hole 40: 1(-1200,-50) 2(-1200,50) 3(-1100,-50) 4(-1100,50) 5(-1000,-50) 6(-1000,50) 7(-900,-50) 8(-900,50) 9(-800,-50) 10(-800,50) 11(-700,-50) 12(-700,50) 13(-600,-50) 14(-600,50) 15(-500,-50) 16(-500,50) 17(-400,-50) 18(-400,50) 19(-300,-50) 20(-300,50) 21(-200,-50) 22(-200,50) 23(-100,-50) 24(-100,50) 25(0,-50) 26(0,50) 27(100,-50) 28(100,50) 29(200,-50) 30(200,50) 31(300,-50) 32(300,50) 33(400,-50) 34(400,50) 35(500,-50) 36(500,50) 37(600,-50) 38(600,50) 39(700,-50) 40(700,50) 41(800,-50) 42(800,50) 43(900,-50) 44(900,50) 45(1000,-50) 46(1000,50) 47(1100,-50) 48(1100,50) 49(1200,-50) 50(1200,50)
Top Overlay:
  drawing of 176 lines, arcs and shapes, not listed
Mechanical 16:
  rectangle: -1210,-60 -1190,-40
  rectangle: -1210,40 -1190,60
  rectangle: -1110,40 -1090,60
  rectangle: -1110,-60 -1090,-40
  rectangle: -1010,40 -990,60
  rectangle: -1010,-60 -990,-40
  rectangle: -910,40 -890,60
  rectangle: -810,40 -790,60
  rectangle: -710,40 -690,60
  rectangle: -910,-60 -890,-40
  rectangle: -810,-60 -790,-40
  rectangle: -710,-60 -690,-40
  rectangle: -610,40 -590,60
  rectangle: -610,-60 -590,-40
  rectangle: -510,40 -490,60
  rectangle: -510,-60 -490,-40
  rectangle: -410,40 -390,60
  rectangle: -410,-60 -390,-40
  rectangle: -310,40 -290,60
  rectangle: -310,-60 -290,-40
  rectangle: -210,40 -190,60
  rectangle: -210,-60 -190,-40
  rectangle: -110,40 -90,60
  rectangle: -110,-60 -90,-40
  rectangle: -10,40 10,60
  rectangle: -10,-60 10,-40
  rectangle: 90,40 110,60
  rectangle: 90,-60 110,-40
  rectangle: 190,40 210,60
  rectangle: 190,-60 210,-40
  rectangle: 290,40 310,60
  rectangle: 290,-60 310,-40
  rectangle: 390,40 410,60
  rectangle: 390,-60 410,-40
  rectangle: 490,40 510,60
  rectangle: 490,-60 510,-40
  rectangle: 590,40 610,60
  rectangle: 590,-60 610,-40
  rectangle: 690,40 710,60
  rectangle: 690,-60 710,-40
  rectangle: 790,40 810,60
  rectangle: 890,40 910,60
  rectangle: 990,40 1010,60
  rectangle: 1090,40 1110,60
  rectangle: 1190,40 1210,60
  rectangle: 1190,-60 1210,-40
  rectangle: 1090,-60 1110,-40
  rectangle: 990,-60 1010,-40
  rectangle: 890,-60 910,-40
  rectangle: 790,-60 810,-40

## 2X25/90 [mil]
pads (50):
  oct 60x60 hole 40: 1(-1150,-250) 2(-1150,-150) 3(-1050,-250) 4(-1050,-150) 5(-950,-250) 6(-950,-150) 7(-850,-250) 8(-850,-150) 9(-750,-250) 10(-750,-150) 11(-650,-250) 12(-650,-150) 13(-550,-250) 14(-550,-150) 15(-450,-250) 16(-450,-150) 17(-350,-250) 18(-350,-150) 19(-250,-250) 20(-250,-150) 21(-150,-250) 22(-150,-150) 23(-50,-250) 24(-50,-150) 25(50,-250) 26(50,-150) 27(150,-250) 28(150,-150) 29(250,-250) 30(250,-150) 31(350,-250) 32(350,-150) 33(450,-250) 34(450,-150) 35(550,-250) 36(550,-150) 37(650,-250) 38(650,-150) 39(750,-250) 40(750,-150) 41(850,-250) 42(850,-150) 43(950,-250) 44(950,-150) 45(1050,-250) 46(1050,-150) 47(1150,-250) 48(1150,-150) 49(1250,-250) 50(1250,-150)
Top Overlay:
  drawing of 176 lines, arcs and shapes, not listed
Mechanical 16:
  rectangle: -1165,-185 -1135,-115
  rectangle: -1065,-185 -1035,-115
  rectangle: -965,-185 -935,-115
  rectangle: -865,-185 -835,-115
  rectangle: -765,-185 -735,-115
  rectangle: -665,-185 -635,-115
  rectangle: -565,-185 -535,-115
  rectangle: -465,-185 -435,-115
  rectangle: -365,-185 -335,-115
  rectangle: -265,-185 -235,-115
  rectangle: -165,-185 -135,-115
  rectangle: -65,-185 -35,-115
  rectangle: 35,-185 65,-115
  rectangle: 135,-185 165,-115
  rectangle: 235,-185 265,-115
  rectangle: 335,-185 365,-115
  rectangle: 435,-185 465,-115
  rectangle: 535,-185 565,-115
  rectangle: 635,-185 665,-115
  rectangle: 735,-185 765,-115
  rectangle: 835,-185 865,-115
  rectangle: 935,-185 965,-115
  rectangle: 1035,-185 1065,-115
  rectangle: 1135,-185 1165,-115
  rectangle: 1235,-185 1265,-115

## 2X30 [mil]
pads (60):
  oct 60x60 hole 40: 1(-1500,-50) 2(-1500,50) 3(-1400,-50) 4(-1400,50) 5(-1300,-50) 6(-1300,50) 7(-1200,-50) 8(-1200,50) 9(-1100,-50) 10(-1100,50) 11(-1000,-50) 12(-1000,50) 13(-900,-50) 14(-900,50) 15(-800,-50) 16(-800,50) 17(-700,-50) 18(-700,50) 19(-600,-50) 20(-600,50) 21(-500,-50) 22(-500,50) 23(-400,-50) 24(-400,50) 25(-300,-50) 26(-300,50) 27(-200,-50) 28(-200,50) 29(-100,-50) 30(-100,50) 31(0,-50) 32(0,50) 33(100,-50) 34(100,50) 35(200,-50) 36(200,50) 37(300,-50) 38(300,50) 39(400,-50) 40(400,50) 41(500,-50) 42(500,50) 43(600,-50) 44(600,50) 45(700,-50) 46(700,50) 47(800,-50) 48(800,50) 49(900,-50) 50(900,50) 51(1000,-50) 52(1000,50) 53(1100,-50) 54(1100,50) 55(1200,-50) 56(1200,50) 57(1300,-50) 58(1300,50) 59(1400,-50) 60(1400,50)
Top Overlay:
  drawing of 211 lines, arcs and shapes, not listed
Mechanical 16:
  rectangle: -1510,-60 -1490,-40
  rectangle: -1510,40 -1490,60
  rectangle: -1410,40 -1390,60
  rectangle: -1410,-60 -1390,-40
  rectangle: -1310,40 -1290,60
  rectangle: -1310,-60 -1290,-40
  rectangle: -1210,40 -1190,60
  rectangle: -1110,40 -1090,60
  rectangle: -1010,40 -990,60
  rectangle: -1210,-60 -1190,-40
  rectangle: -1110,-60 -1090,-40
  rectangle: -1010,-60 -990,-40
  rectangle: -910,40 -890,60
  rectangle: -910,-60 -890,-40
  rectangle: -810,40 -790,60
  rectangle: -810,-60 -790,-40
  rectangle: -710,40 -690,60
  rectangle: -710,-60 -690,-40
  rectangle: -610,40 -590,60
  rectangle: -610,-60 -590,-40
  rectangle: -510,40 -490,60
  rectangle: -510,-60 -490,-40
  rectangle: -410,40 -390,60
  rectangle: -410,-60 -390,-40
  rectangle: -310,40 -290,60
  rectangle: -310,-60 -290,-40
  rectangle: -210,40 -190,60
  rectangle: -210,-60 -190,-40
  rectangle: -110,40 -90,60
  rectangle: -110,-60 -90,-40
  rectangle: -10,40 10,60
  rectangle: -10,-60 10,-40
  rectangle: 90,40 110,60
  rectangle: 90,-60 110,-40
  rectangle: 190,40 210,60
  rectangle: 190,-60 210,-40
  rectangle: 290,40 310,60
  rectangle: 290,-60 310,-40
  rectangle: 390,40 410,60
  rectangle: 390,-60 410,-40
  rectangle: 490,40 510,60
  rectangle: 490,-60 510,-40
  rectangle: 590,40 610,60
  rectangle: 590,-60 610,-40
  rectangle: 690,40 710,60
  rectangle: 690,-60 710,-40
  rectangle: 790,40 810,60
  rectangle: 790,-60 810,-40
  rectangle: 890,40 910,60
  rectangle: 890,-60 910,-40
  rectangle: 990,40 1010,60
  rectangle: 990,-60 1010,-40
  rectangle: 1090,40 1110,60
  rectangle: 1090,-60 1110,-40
  rectangle: 1190,40 1210,60
  rectangle: 1190,-60 1210,-40
  rectangle: 1290,40 1310,60
  rectangle: 1290,-60 1310,-40
  rectangle: 1390,40 1410,60
  rectangle: 1390,-60 1410,-40

## 2X30/90 [mil]
pads (60):
  oct 60x60 hole 40: 1(-1450,-250) 2(-1450,-150) 3(-1350,-250) 4(-1350,-150) 5(-1250,-250) 6(-1250,-150) 7(-1150,-250) 8(-1150,-150) 9(-1050,-250) 10(-1050,-150) 11(-950,-250) 12(-950,-150) 13(-850,-250) 14(-850,-150) 15(-750,-250) 16(-750,-150) 17(-650,-250) 18(-650,-150) 19(-550,-250) 20(-550,-150) 21(-450,-250) 22(-450,-150) 23(-350,-250) 24(-350,-150) 25(-250,-250) 26(-250,-150) 27(-150,-250) 28(-150,-150) 29(-50,-250) 30(-50,-150) 31(50,-250) 32(50,-150) 33(150,-250) 34(150,-150) 35(250,-250) 36(250,-150) 37(350,-250) 38(350,-150) 39(450,-250) 40(450,-150) 41(550,-250) 42(550,-150) 43(650,-250) 44(650,-150) 45(750,-250) 46(750,-150) 47(850,-250) 48(850,-150) 49(950,-250) 50(950,-150) 51(1050,-250) 52(1050,-150) 53(1150,-250) 54(1150,-150) 55(1250,-250) 56(1250,-150) 57(1350,-250) 58(1350,-150) 59(1450,-250) 60(1450,-150)
Top Overlay:
  drawing of 211 lines, arcs and shapes, not listed
Mechanical 16:
  rectangle: -1465,-185 -1435,-115
  rectangle: -1365,-185 -1335,-115
  rectangle: -1265,-185 -1235,-115
  rectangle: -1165,-185 -1135,-115
  rectangle: -1065,-185 -1035,-115
  rectangle: -965,-185 -935,-115
  rectangle: -865,-185 -835,-115
  rectangle: -765,-185 -735,-115
  rectangle: -665,-185 -635,-115
  rectangle: -565,-185 -535,-115
  rectangle: -465,-185 -435,-115
  rectangle: -365,-185 -335,-115
  rectangle: -265,-185 -235,-115
  rectangle: -165,-185 -135,-115
  rectangle: -65,-185 -35,-115
  rectangle: 35,-185 65,-115
  rectangle: 135,-185 165,-115
  rectangle: 235,-185 265,-115
  rectangle: 335,-185 365,-115
  rectangle: 435,-185 465,-115
  rectangle: 535,-185 565,-115
  rectangle: 635,-185 665,-115
  rectangle: 735,-185 765,-115
  rectangle: 835,-185 865,-115
  rectangle: 935,-185 965,-115
  rectangle: 1035,-185 1065,-115
  rectangle: 1135,-185 1165,-115
  rectangle: 1235,-185 1265,-115
  rectangle: 1335,-185 1365,-115
  rectangle: 1435,-185 1465,-115